# EAGLE library part DIPSW4 (library user_swich)
OTAX 表面実装4接点DIPスイッチ 秋月電子 通販コード : 108929
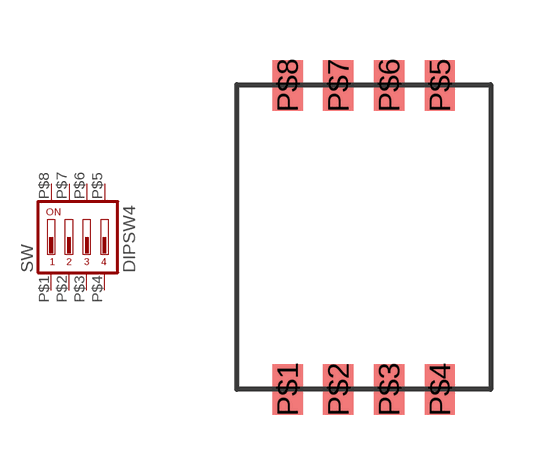
[diagram p0: symbol with the pads of DIPSW4; footprint DIPSW4]

Designator prefix SW

## DIPSW4  [DIPSW4]
P$1  1  pas
P$2  2  pas
P$3  3  pas
P$4  4  pas
P$5  5  pas
P$6  6  pas
P$7  7  pas
P$8  8  pas

## Footprint DIPSW4 (pad centres in mm)
smd 0.76 x 1.27: P$1 -1.27,-3.81; P$2 0,-3.81; P$3 1.27,-3.81; P$4 2.54,-3.81; P$5 2.54,3.79; P$6 1.27,3.79; P$7 0,3.79; P$8 -1.27,3.79